# EAGLE library part S9B-PH-* (library jst-pa)
Wire-to-Board 2.0mm pitch side mount connector Source: http://www.jst-mfg.com/product/pdf/jpn/PH.pdf http://www.jst-mfg.com/product/detail.php?series=199
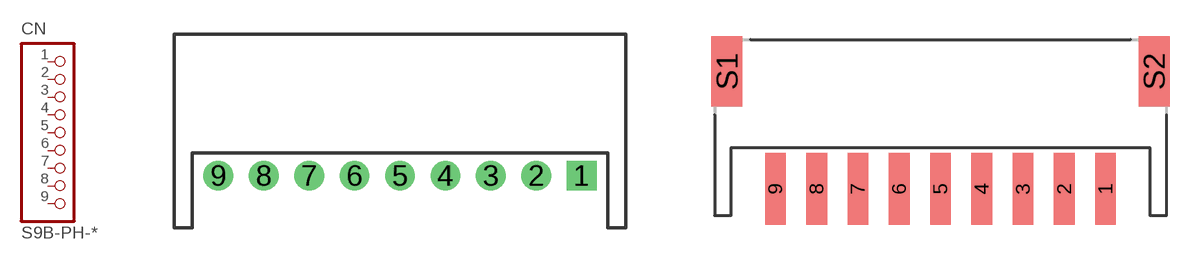
[diagram p14: symbol with the pads of S9B-PH-K-S; footprints S9B-PH-K-S, S9B-PH-SM4-TB]

Designator prefix CN

## S9B-PH-K-S  [S9B-PH-K-S]
1  1  pas
2  2  pas
3  3  pas
4  4  pas
5  5  pas
6  6  pas
7  7  pas
8  8  pas
9  9  pas

## S9B-PH-SM4-TB  [S9B-PH-SM4-TB]
Pads as for S9B-PH-K-S

## Footprint S9B-PH-K-S (pad centres in mm)
drill 0.8 square: 1 8,0
drill 0.8: 2 6,0; 3 4,0; 4 2,0; 5 0,0; 6 -2,0; 7 -4,0; 8 -6,0; 9 -8,0

## Footprint S9B-PH-SM4-TB (pad centres in mm)
smd 1 x 3.5: 1 8,-1; 2 6,-1; 3 4,-1; 4 2,-1; 5 0,-1; 6 -2,-1; 7 -4,-1; 8 -6,-1; 9 -8,-1
smd 1.5 x 3.4: S1 -10.35,4.7; S2 10.35,4.7